# Altium footprint library DAU_Kupplung_3phasig_V1_13.PcbLib: 25 footprints (part 2 of 2)
Each footprint in its own frame and in the unit in brackets; x right, y up, seen from the top. Pads: shape width x height; smd on the part's side, far side on the other; paste and mask are expansions set on the pad; w line width, h text height; cw(c..) or ccw(c..) is an arc to the next point about the centre after c.
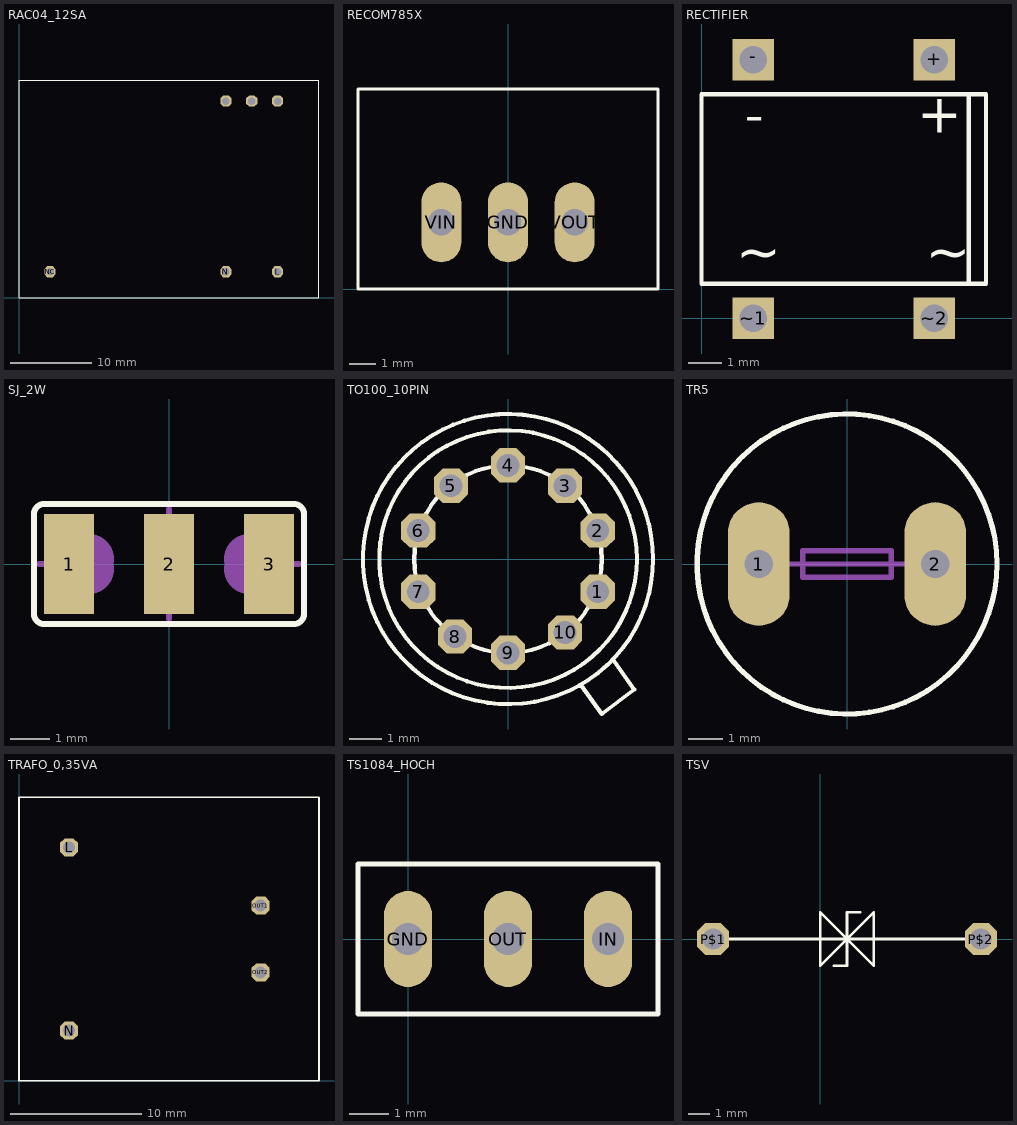
[diagram p1: the footprints below, top view; thin cyan lines are the x and y axes]

## RAC04_12SA [mil] "RAC04_12SA"
pads (6):
  oct 54x54 hole 36: +VO(1000,950) GND(1125,950) L(1250,125) N(1000,125) NC(150,125) NC1(1250,950)
Top Overlay:
  lines w5: 0,0 0,1050 1450,1050 1450,0 0,0

## RECOM785X [mil] "RECOM785X"
pads (3):
  oval 60x120 hole 40: GND(0,100) VIN(-100,100) VOUT(100,100)
Top Overlay:
  lines w5: -225,0 -225,300 225,300 225,0 -225,0

## RECTIFIER [mil] "RECTIFIER"
pads (4):
  rect 48x48 hole 32: +(270,300) -(60,300) ~1(60,0) ~2(270,0)
Top Overlay:
  lines w5: 310,40 310,260 ; 310,40 330,40 330,260 310,260 ; 310,40 0,40 0,260 310,260
  text "-" at 50,200 h77.5
  text "+" at 250,200 h77.5
  text "~" at 260,40 h77.5
  text "~" at 40,40 h77.5

## SJ_2W [mil] "SJ_2W"
pads (3):
  rect 50x100 smd: 1(-100,0) 2(0,0) 3(100,0)
Top Overlay:
  lines w6: -135,-50 ccw(c-125,-50) -125,-60 125,-60 ccw(c125,-50) 135,-50 135,50 ccw(c125,50) 125,60 -125,60 ccw(c-125,50) -135,50 -135,-50
Mechanical 16:
  rectangle: -20,-30 20,30
  lines w6: -130,0 -110,0 ; 0,-55 0,-30 ; 0,30 0,55 ; 110,0 130,0
  lines w50: -80,-5 cw(c-80,0) -80,5 ; 80,-5 ccw(c80,0) 80,5

## TO100_10PIN [mil] "TO100_10PIN"
pads (10):
  oct 42x42 hole 28: 1(110,-40) 2(110,35) 3(70,90) 4(0,115) 5(-70,90) 6(-110,35) 7(-110,-40) 8(-65,-95) 9(0,-115) 10(70,-90)
Top Overlay:
  circle w5: c0,0 r115
  circle w5: c0,0 r178
  circle w5: c0,0 r158
  lines w5: 90,-155 115,-190 155,-160 130,-125

## TR5 [mil] "TR5"
pads (2):
  oval 70x140 hole 32: 1(-100,0) 2(100,0)
Top Overlay:
  circle w6: c0,0 r170
Mechanical 16:
  lines w6: -85,0 85,0 ; -50,-15 50,-15 50,15 -50,15 -50,-15

## TRAFO_0,35VA [mil] "TRAFO_0,35VA"
pads (4):
  oct 54x54 hole 36: L(150,700) N(150,150) OUT1(725,525) OUT2(725,325)
Top Overlay:
  lines w5: 0,0 0,850 900,850 900,0 0,0

## TS1084_HOCH [mil] "TS1084_HOCH"
pads (3):
  oval 48x96 hole 32: GND(0,0) IN(200,0) OUT(100,0)
Top Overlay:
  lines w5: -50,-75 -50,75 250,75 250,-75 -50,-75

## TSV [mil] "TSV"
pads (2):
  oct 60x60 hole 40: P$1(-200,0) P$2(300,0)
Top Overlay:
  lines w5: -200,0 50,0 ; 25,-50 50,-50 50,0 ; 75,50 50,50 50,0 ; 300,0 50,0 ; 50,0 100,-50 100,50 50,0 ; 50,0 0,50 0,-50 50,0